# EAGLE library part USB-C(DX07S016JA1R1500) (library CDC Library v130)
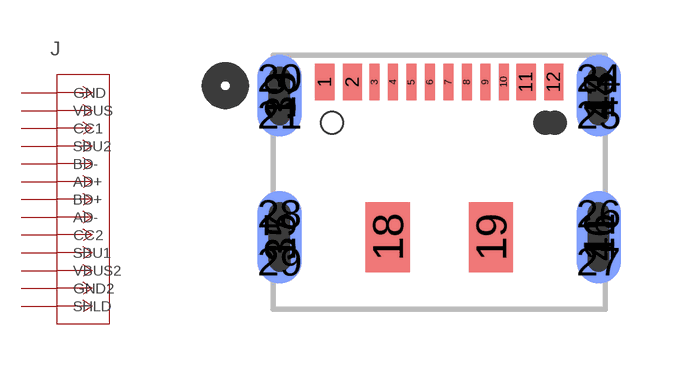
[diagram p4: symbol with the pads of CONN12_016JA1R1500_JAE; footprint CONN12_016JA1R1500_JAE]

Designator prefix J

## USB-C(DX07S016JA1R1500) (BUILT_BY: EMA_Matt; COPYRIGHT: Copyright (C) 2018 Accelerated Designs. All rights reserved; DATASHEET: https://www.digikey.com/product-detail/en/DX07S016JA1R1500/670-DX07S016JA1R1500CT-ND/11586676?utm_campaign=buynow&WT.z_cid=ref_octopart_dkc_buynow&utm_medium=aggregator&curr=usd&site=us&utm_source=octopart; MANUFACTURER_PART_NUMBER: DX07S016JA1R1500; SOURCELIBRARY: JAE_Electronics_2020-03-30; VENDOR: JAE Electronics)  [CONN12_016JA1R1500_JAE]
1  GND  pwr
2  VBUS  pwr
3  CC1  pas
4  SBU2  pas
5  BD-  pas
6  AD+  pas
7  BD+  pas
8  AD-  pas
9  CC2  pas
10  SBU1  pas
11  VBUS2  pwr
12  GND2  pwr
13  SHLD  pas
14  SHLD  pas
15  SHLD  pas
16  SHLD  pas
18  SHLD  pas
19  SHLD  pas
20  SHLD  pas
21  SHLD  pas
24  SHLD  pas
25  SHLD  pas
26  SHLD  pas
27  SHLD  pas
28  SHLD  pas
29  SHLD  pas
37  SHLD  pas
39  SHLD  pas
41  SHLD  pas
43  SHLD  pas

## Footprint CONN12_016JA1R1500_JAE (pad centres in mm)
smd 0.52 x 1: 1 -3.1,1.1; 2 -2.35,1.1; 11 2.35,1.1; 12 3.1,1.1
smd 0.27 x 1: 3 -1.75,1.1; 4 -1.25,1.1; 5 -0.75,1.1; 6 -0.25,1.1; 7 0.25,1.1; 8 0.75,1.1; 9 1.25,1.1; 10 1.75,1.1
smd 1.2 x 2.2: 13 -4.32,0.725; 14 4.32,0.725
smd 1.2 x 2.5: 15 -4.32,-3.1; 16 4.32,-3.1
smd 1.2 x 1.9: 18 -1.4,-3.1; 19 1.4,-3.1
drill 0.65 pad 0.65: 20 -4.32,1.225; 21 -4.32,0.225; 24 4.32,1.225; 25 4.32,0.225; 26 4.32,-2.45; 27 4.32,-3.75; 28 -4.32,-2.45; 29 -4.32,-3.75
smd 1.2 x 2.5 bottom: 37 -4.32,-3.1; 41 4.32,-3.1
smd 1.2 x 2.2 bottom: 39 -4.32,0.725; 43 4.32,0.725
hole 0.6 at -2.9,0
hole 0.6 at 3.125,0
hole 0.6 at 2.875,0